# Altium schematic symbol library CAPACITOR.SchLib: 3 symbols
Pins are listed as number, name and electrical type; pins without a type are passive.

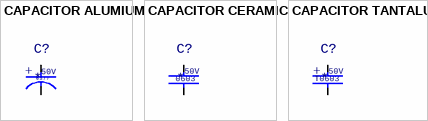
[diagram p0: symbols CAPACITOR ALUMIUM to CAPACITOR TANTALUM]

## CAPACITOR ALUMIUM
designator C?  Voltage: 50V  Size: 6377
pins: 1 C, 2 A
text: +

## CAPACITOR CERAMIC
designator C?  Voltage: 50V  Size: 0603
pins: 1, 2

## CAPACITOR TANTALUM
designator C?  Voltage: 50V  Size: 0603
Value: *
pins: 1 N, 2 P
text: +; T